# Altium schematic symbol library SCH - POWER - LINEAR VREG - TI TPS75318-EP_PWP_20.SchLib: 1 symbol
Pins are listed as number, name and electrical type; pins without a type are passive.

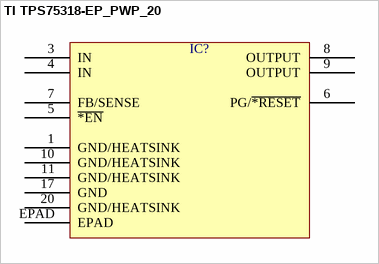
[diagram p0: symbol TI TPS75318-EP_PWP_20]

## TI TPS75318-EP_PWP_20
designator IC?  (value not drawn)
pins: 1 GND/HEATSINK, 3 IN, 4 IN, 5 ~{*EN}, 6 PG/~{*RESET}, 7 FB/SENSE, 8 OUTPUT, 9 OUTPUT, 10 GND/HEATSINK, 11 GND/HEATSINK, 17 GND, 20 GND/HEATSINK, EPAD